# Altium integrated library ANTENNA.IntLib: 1 symbol
Pins are listed as number, name and electrical type; pins without a type are passive.

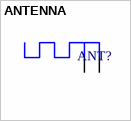
[diagram p0: symbol ANTENNA]

## ANTENNA
designator ANT?
1.575GHz, 2.45GHz Bluetooth, GPS, Wi-Fi Chip RF Antenna 2.4GHz ~ 2.5GHz 0.28dBi, -2.17dBi, -0.82dBi, 0.24dBi Solder Surface Mount; MF: Infineon Technologies; Package: SMD-2 Infineon Technologies; MP: Antenna; Value: *; Availability: Unavailable; Price: None; SnapEDA_Link: https://www.snapeda.com/parts/Antenna/Infineon%20Technologies/view-part/3603982/?ref=snap
footprint RN-ANT
pins: FEED, GND